# EAGLE library part RTE24005 (library switches)
Power Relay, 8A, 30VDC
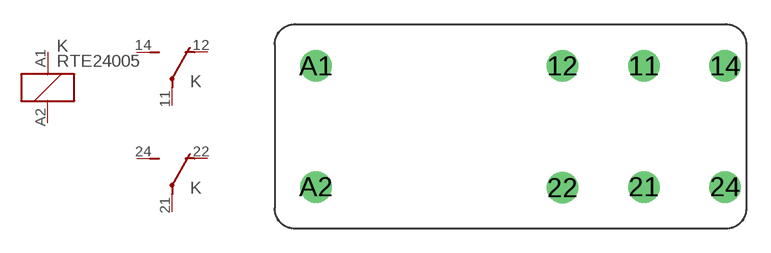
[diagram p1: symbol with the pads of 29X12.7; footprint 29X12.7]

Designator prefix K; gates 1=K 2=U 3=U

## RTE24005F (MF: TE Connectivity; MPN: RTE24005F; REVIEWED: NO; TESTED: NO)  [29X12.7]
11  2:P  pas
12  2:O  pas
14  2:S  pas
21  3:P  pas
22  3:O  pas
24  3:S  pas
A1  1:1  pas
A2  1:2  pas

## Footprint 29X12.7 (pad centres in mm)
Based on TE RTE24005F datasheet Revision History Aug-30-2014 drawn by Michael Ferguson
drill 1.3: 11 0,3.75; 12 -5.04,3.75; 14 5.04,3.75; 21 0,-3.75; 22 -5.04,-3.81; 24 5.04,-3.75; A1 -20.3,3.75; A2 -20.3,-3.75